# EAGLE library part 535512-08 (library con-tyco-modu)
RECEPTACAL
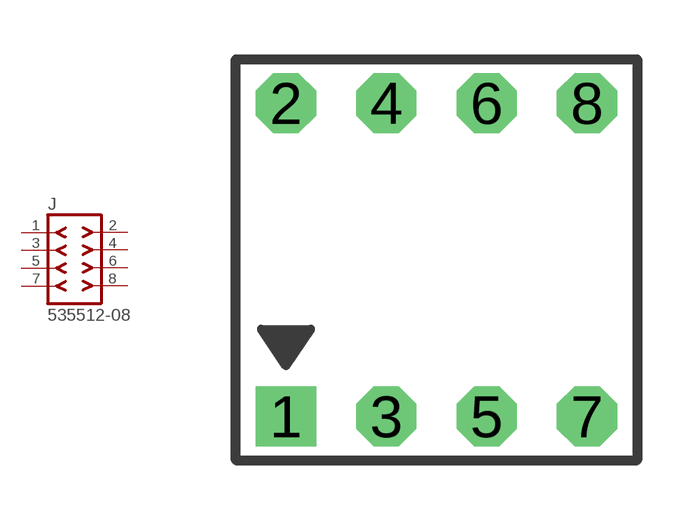
[diagram p13: symbol with the pads of 535512-08; footprint 535512-08]

Designator prefix J

## 535512-08  [535512-08]
1  1  pas
2  2  pas
3  3  pas
4  4  pas
5  5  pas
6  6  pas
7  7  pas
8  8  pas

## Footprint 535512-08 (pad centres in mm)
AMPMODU - 535512 Series
drill 1.016 square: 1 -3.81,0
drill 1.016 octagon: 2 -3.81,7.938; 3 -1.27,0; 4 -1.27,7.938; 5 1.27,0; 6 1.27,7.938; 7 3.81,0; 8 3.81,7.938